# Altium footprint library Resistor.PcbLib: 10 footprints
Each footprint in its own frame and in the unit in brackets; x right, y up, seen from the top. Pads: shape width x height; smd on the part's side, far side on the other; paste and mask are expansions set on the pad; w line width, h text height; cw(c..) or ccw(c..) is an arc to the next point about the centre after c.
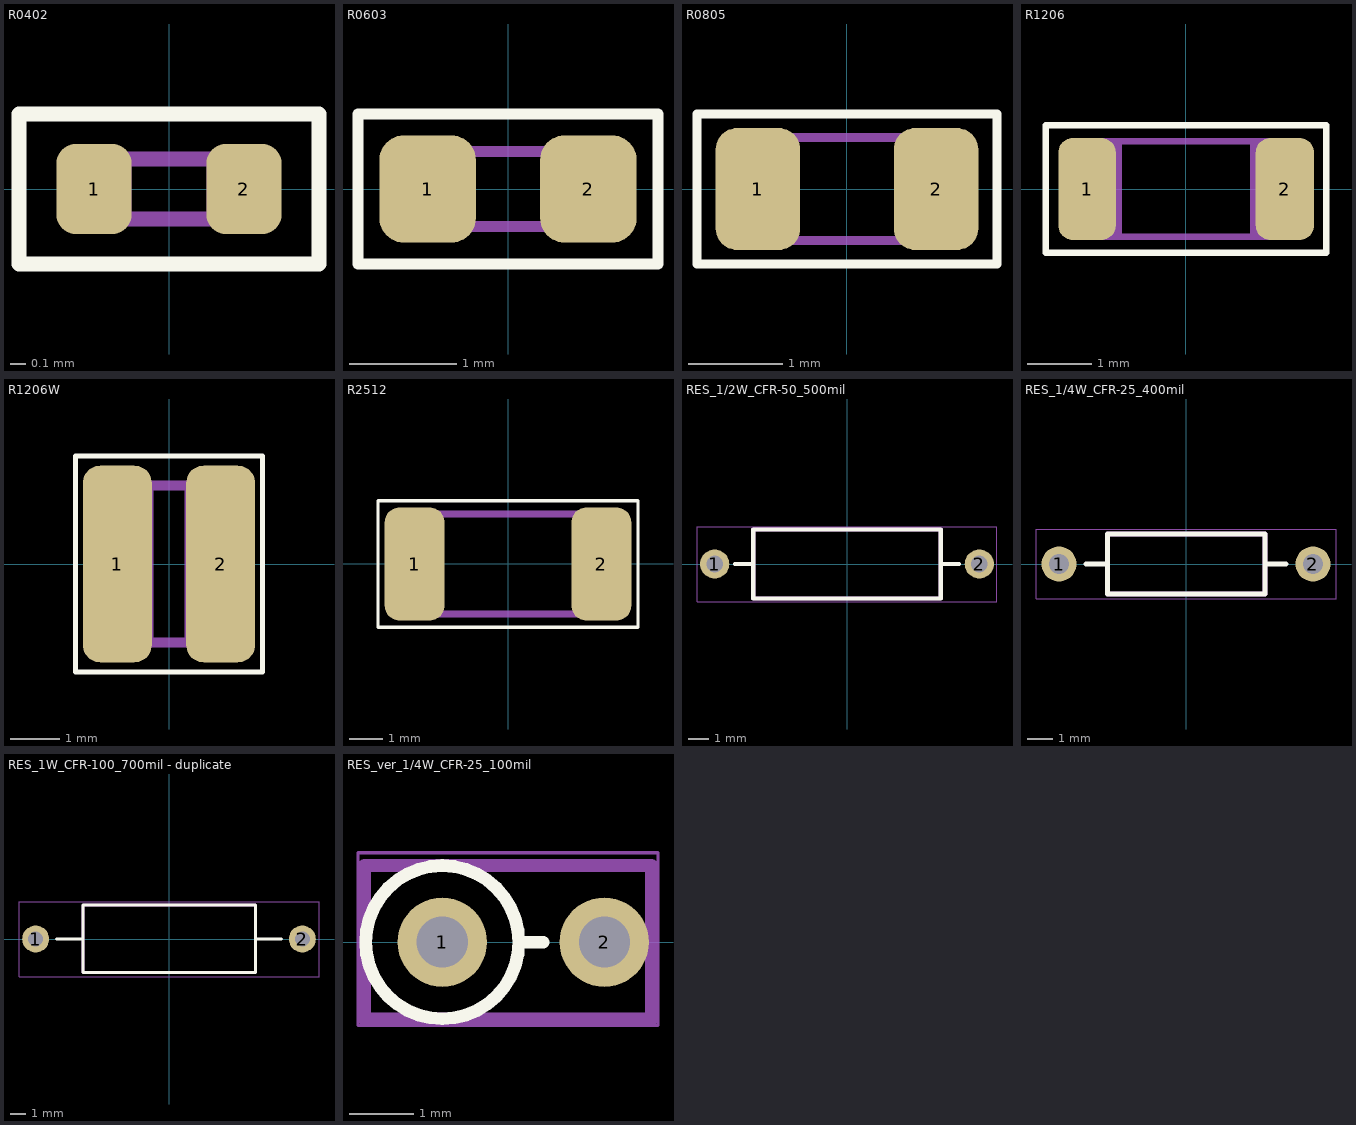
[diagram p0: the footprints below, top view; thin cyan lines are the x and y axes]

## R0402 [mm]
pads (2):
  rrect50% 0.5x0.6 smd: 1(-0.5,0) 2(0.5,0)
Top Overlay:
  lines w0.1: -1,-0.5 1,-0.5 1,0.5 -1,0.5 -1,-0.5
Mechanical 13:
  rectangle: -0.25,-0.25 0.25,-0.15
  rectangle: -0.5,-0.25 -0.25,0.25
  rectangle: -0.25,0.15 0.25,0.25
  region: 0.5,0.25 0.25,0.25 0.25,-0.25 0.5,-0.25
Mechanical 15:
  lines w0.05: -1,-0.5 1,-0.5 1,0.5 -1,0.5 -1,-0.5
  text ".Designator" at -0.8,-0.1 h0.5
3D body "RES0402.stp": height 0.3, standoff 0, extent -0.5,-0.25 0.5,0.25

## R0603 [mm]
pads (2):
  rrect50% 0.9x1 smd: 1(-0.75,0) 2(0.75,0)
Top Overlay:
  lines w0.1: -1.4,-0.7 1.4,-0.7 1.4,0.7 -1.4,0.7 -1.4,-0.7
Mechanical 13:
  rectangle: -0.8,-0.4 -0.5,0.4
  rectangle: 0.5,-0.4 0.8,0.4
  rectangle: -0.5,-0.4 0.5,-0.3
  rectangle: -0.5,0.3 0.5,0.4
Mechanical 15:
  lines w0.05: -1.4,-0.7 -1.4,0.7 1.4,0.7 1.4,-0.7 -1.4,-0.7
  text ".Designator" at -1.1,-0.1 h0.5
3D body "RES0603.stp": height 0.45, standoff 0, extent -0.8,-0.4 0.8,0.4

## R0805 [mm]
pads (2):
  rrect50% 0.9x1.3 smd: 1(-0.95,0) 2(0.95,0)
Top Overlay:
  lines w0.1: -1.6,-0.8 -1.6,0.8 1.6,0.8 1.6,-0.8 -1.6,-0.8
Mechanical 13:
  rectangle: -0.6,0.5 0.6,0.6
  rectangle: -0.6,-0.6 0.6,-0.5
  rectangle: 0.6,-0.6 1,0.6
  rectangle: -1,-0.6 -0.6,0.6
Mechanical 15:
  lines w0.05: -1.6,-0.8 1.6,-0.8 1.6,0.8 -1.6,0.8 -1.6,-0.8
  text ".Designator" at -1.4,-0.2 h0.75
3D body "RES0805.stp": height 0.5, standoff 0, extent -1,-0.63 1,0.62

## R1206 [mm]
pads (2):
  rrect50% 0.9x1.6 smd: 1(-1.55,0)
  rrect50% 0.914x1.6 smd: 2(1.55,0)
Top Overlay:
  lines w0.1: -2.2,-1 -2.2,1 2.2,1 2.2,-1 -2.2,-1
Mechanical 13:
  region: 1,-0.7 -1,-0.7 -1,-0.8 1,-0.8
  rectangle: -1,0.7 1,0.8
  rectangle: -1.6,-0.8 -1,0.8
  region: 1.6,0.8 1,0.8 1,-0.8 1.6,-0.8
Mechanical 15:
  lines w0.05: -2.2,-1 -2.2,1 2.2,1 2.2,-1 -2.2,-1
  text ".Designator" at -1.9,-0.2 h1
3D body "User Library-R1206.step": height 0.47, standoff 0, extent -1.55,-0.776 1.55,0.776

## R1206W [mm]
pads (2):
  rrect50% 1.4x4 smd: 1(-1.05,0) 2(1.05,0)
Top Overlay:
  lines w0.1: 1.9,-2.2 -1.9,-2.2 -1.9,2.2 1.9,2.2 ; 1.9,-2.2 1.9,2.2 ; 1.9,-2.2 1.9,2.2
Mechanical 13:
  region: -0.316,1.6 -0.9,1.6 -0.9,-1.6 -0.316,-1.6
  rectangle: 0.316,-1.6 0.9,1.6
  lines w0.203: -0.8,-1.6 0.8,-1.6 ; -0.8,1.6 0.8,1.6
Mechanical 15:
  lines w0.05: -1.9,-2.2 1.9,-2.2 1.9,2.2 -1.9,2.2 -1.9,-2.2
  text ".Designator" at 0.2,-2.2 h1
3D body "1206w.stp": height 0.61, standoff 0, extent -0.8,-1.6 0.8,1.6

## R2512 [mm]
pads (2):
  rrect50% 1.8x3.4 smd: 1(-2.8,0) 2(2.8,0)
Top Overlay:
  lines w0.1: -3.9,-1.9 3.9,-1.9 3.9,1.9 -3.9,1.9 -3.9,-1.9
Mechanical 13:
  region: 3.2,1.6 2.1,1.6 2.1,-1.6 3.2,-1.6
  rectangle: -3.2,-1.6 -2.1,1.6
  lines w0.2: -2.6,1.5 2.3,1.5 ; -2.3,-1.5 2.6,-1.5
Mechanical 15:
  lines w0.05: -3.9,-1.9 3.9,-1.9 3.9,1.9 -3.9,1.9 -3.9,-1.9
  text ".Designator" at -3.7,0.5 h1.5
3D body "User Library-Resistors.step": height 0.62, standoff 0, extent -3.225,-1.612 3.225,1.613

## RES_1/2W_CFR-50_500mil [mm] "Axial Device, Thru-Hole; 2 Leads; 0.3 in Pin Spacing"
height 1.524
pads (2):
  round 1.4 hole 0.8: 1(-6.35,0) 2(6.35,0)
Top Overlay:
  lines w0.2: -5.38,0 -4.58,0 ; 4.58,0 5.38,0 ; -4.5,-1.65 -4.5,1.65 4.5,1.65 4.5,-1.65 -4.5,-1.65
Mechanical 13:
  lines w0.2: -4.5,-1.65 4.5,-1.65 4.5,1.65 -4.5,1.65 -4.5,-1.65
Mechanical 15:
  lines w0.05: -7.2,-1.8 7.2,-1.8 7.2,1.8 -7.2,1.8 -7.2,-1.8
  text ".Designator" at -2.2,-0.3 h1
3D body "User Library-Res50-Axial 0_5W-1K.step": height 6.38, standoff -3, extent -6.725,-1.875 6.725,1.875

## RES_1/4W_CFR-25_400mil [mm] "Axial Device, Thru-Hole; 2 Leads; 0.3 in Pin Spacing"
height 1.524
pads (2):
  round 1.4 hole 0.8: 1(-5.08,0) 2(5.08,0)
Top Overlay:
  lines w0.2: -4,0 -3.2,0 ; 3.2,0 4,0 ; -3.15,-1.2 3.15,-1.2 3.15,1.2 -3.15,1.2 -3.15,-1.2
Mechanical 13:
  lines w0.2: -3.15,-1.2 -3.15,1.2 3.15,1.2 3.15,-1.2 -3.15,-1.2
Mechanical 15:
  lines w0.05: -6,-1.4 6,-1.4 6,1.4 -6,1.4 -6,-1.4
  text ".Designator" at -2.3,0 h1
3D body "User Library-RESISTOR, 0_25 W, 0_4 IN LEAD PITCH.step": height 2.93, standoff -2.54, extent -5.385,-1.161 5.385,1.151

## RES_1W_CFR-100_700mil - duplicate [mm] "Axial Device, Thru-Hole; 2 Leads; 0.3 in Pin Spacing"
height 1.524
pads (2):
  round 1.8 hole 1: 1(-8.89,0) 2(8.89,0)
Top Overlay:
  lines w0.2: -7.5,0 -5.8,0 ; 5.8,0 7.5,0 ; -5.75,-2.25 5.75,-2.25 5.75,2.25 -5.75,2.25 -5.75,-2.25
Mechanical 13:
  lines w0.2: -5.75,-2.25 -5.75,2.25 5.75,2.25 5.75,-2.25 -5.75,-2.25
Mechanical 15:
  lines w0.05: -10,-2.5 10,-2.5 10,2.5 -10,2.5 -10,-2.5
  text ".Designator" at -2.2,-0.3 h1
3D body "User Library-Res70 1W SilCoat.step": height 4.52, standoff -2, extent -9.265,-2.25 9.265,2.25

## RES_ver_1/4W_CFR-25_100mil [mm] "Axial Device, Thru-Hole; 2 Leads; 0.3 in Pin Spacing"
height 1.524
pads (2):
  round 1.4 hole 0.8: 1(-5.08,0) 2(-2.54,0)
Top Overlay:
  circle w0.2: c-5.08,0 r1.2
  lines w0.2: -3.88,0 -3.5,0
Mechanical 13:
  lines w0.2: -6.3,-1.2 -6.3,1.2 -1.8,1.2 -1.8,-1.2 -6.3,-1.2
Mechanical 15:
  lines w0.05: -6.4,-1.3 -1.7,-1.3 -1.7,1.4 -6.4,1.4 -6.4,-1.3
  text ".Designator" at -5.9,-0.3 h1
3D body "User Library-Resistor 0_25w_2_54mm.step": height 9.4, standoff -2, extent -6.28,-1.205 -2.24,1.195